# Altium footprint library 贴片.PcbLib: 161 footprints (part 10 of 11)
Each footprint in its own frame and in the unit in brackets; x right, y up, seen from the top. Pads: shape width x height; smd on the part's side, far side on the other; paste and mask are expansions set on the pad; w line width, h text height; cw(c..) or ccw(c..) is an arc to the next point about the centre after c.
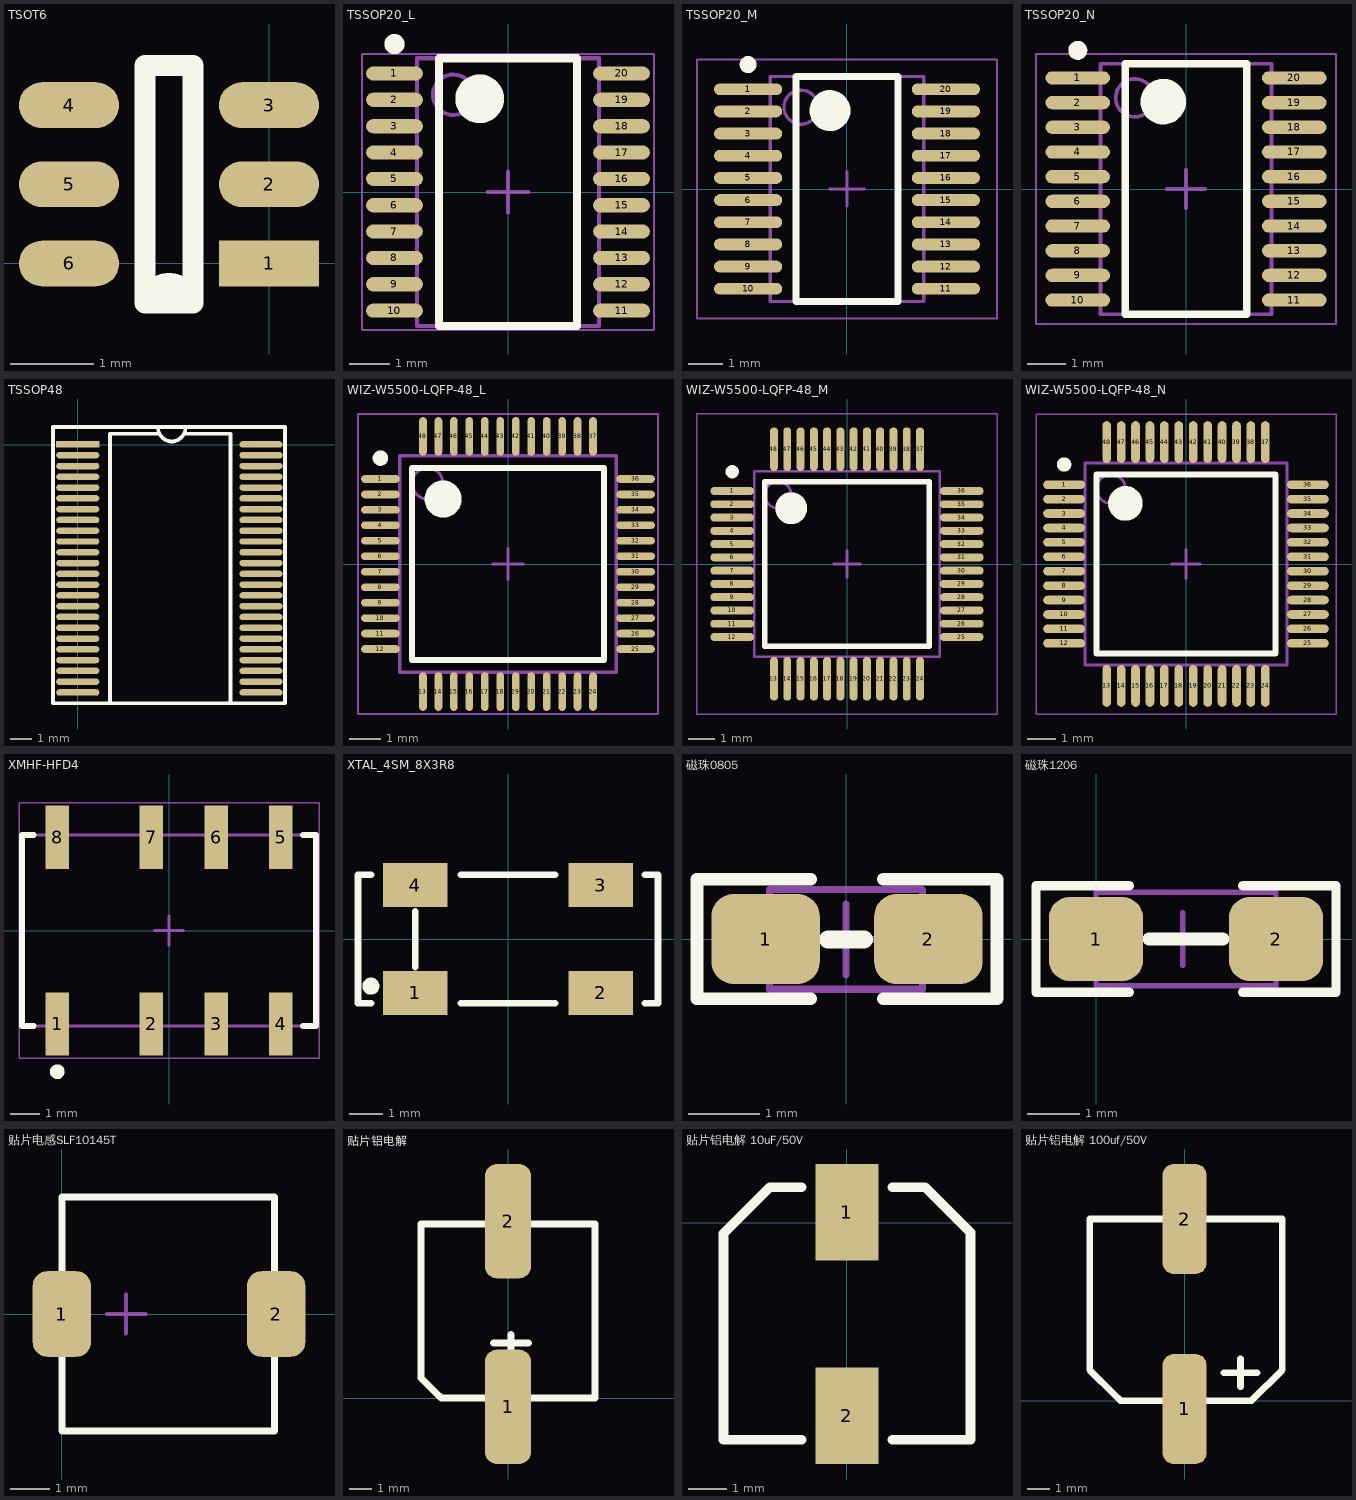
[diagram p9: the footprints below, top view; thin cyan lines are the x and y axes]

## TSOT6 [mm]
height 13.6
pads (6):
  rect 1.2x0.55 smd: 1(0,0)
  oval 1.2x0.55 smd: 2(0,0.95) 3(0,1.9) 4(-2.4,1.9) 5(-2.4,0.95) 6(-2.4,0)
Top Overlay:
  lines w0.254: -1.489,-0.475 -0.962,-0.475 ccw(c-1.2,-0.475) -1.438,-0.475 -0.911,-0.475 -0.911,2.375 -1.489,2.375 -1.489,-0.475

## TSSOP20_L [mm] "TSOP, 20-Leads, Body 6.5x4.4mm, Pitch 0.65mm, IPC High Density"
height 1.2
pads (20):
  oval 1.4x0.35 smd: 1(-2.8,2.925) 2(-2.8,2.275) 3(-2.8,1.625) 4(-2.8,0.975) 5(-2.8,0.325) 6(-2.8,-0.325) 7(-2.8,-0.975) 8(-2.8,-1.625) 9(-2.8,-2.275) 10(-2.8,-2.925) 11(2.8,-2.925) 12(2.8,-2.275) 13(2.8,-1.625) 14(2.8,-0.975) 15(2.8,-0.325) 16(2.8,0.325) 17(2.8,0.975) 18(2.8,1.625) 19(2.8,2.275) 20(2.8,2.925)
Top Overlay:
  circle w0.6: c-0.7,2.3 r0.3
  circle w0.25: c-2.8,3.65 r0.125
  lines w0.2: -1.7,-3.3 1.7,-3.3 1.7,3.3 -1.7,3.3 -1.7,-3.3
Mechanical 13:
  circle w0.1: c-1.35,2.4 r0.5
  lines w0.1: -2.25,-3.3 2.25,-3.3 2.25,3.3 -2.25,3.3 -2.25,-3.3
Mechanical 15:
  lines w0.05: -3.6,-3.4 3.6,-3.4 3.6,3.4 -3.6,3.4 -3.6,-3.4
  lines w0.1: -0.5,0 0.5,0 ; 0,-0.5 0,0.5
3D body: height 1.2, standoff 0.05, extent -2.25,-3.3 2.25,3.3

## TSSOP20_M [mm] "TSOP, 20-Leads, Body 6.5x4.4mm, Pitch 0.65mm, IPC Low Density"
height 1.2
pads (20):
  oval 2x0.35 smd: 1(-2.9,2.925) 2(-2.9,2.275) 3(-2.9,1.625) 4(-2.9,0.975) 5(-2.9,0.325) 6(-2.9,-0.325) 7(-2.9,-0.975) 8(-2.9,-1.625) 9(-2.9,-2.275) 10(-2.9,-2.925) 11(2.9,-2.925) 12(2.9,-2.275) 13(2.9,-1.625) 14(2.9,-0.975) 15(2.9,-0.325) 16(2.9,0.325) 17(2.9,0.975) 18(2.9,1.625) 19(2.9,2.275) 20(2.9,2.925)
Top Overlay:
  circle w0.25: c-2.9,3.65 r0.125
  circle w0.6: c-0.5,2.3 r0.3
  lines w0.2: -1.5,-3.3 -1.5,3.3 1.5,3.3 1.5,-3.3 -1.5,-3.3
Mechanical 13:
  circle w0.1: c-1.35,2.4 r0.5
  lines w0.1: -2.25,-3.3 -2.25,3.3 2.25,3.3 2.25,-3.3 -2.25,-3.3
Mechanical 15:
  lines w0.05: -4.4,-3.8 -4.4,3.8 4.4,3.8 4.4,-3.8 -4.4,-3.8
  lines w0.1: -0.5,0 0.5,0 ; 0,-0.5 0,0.5
3D body: height 1.2, standoff 0.05, extent -2.25,-3.3 2.25,3.3

## TSSOP20_N [mm] "TSOP, 20-Leads, Body 6.5x4.4mm, Pitch 0.65mm, IPC Medium Density"
height 1.2
pads (20):
  oval 1.7x0.35 smd: 1(-2.85,2.925) 2(-2.85,2.275) 3(-2.85,1.625) 4(-2.85,0.975) 5(-2.85,0.325) 6(-2.85,-0.325) 7(-2.85,-0.975) 8(-2.85,-1.625) 9(-2.85,-2.275) 10(-2.85,-2.925) 11(2.85,-2.925) 12(2.85,-2.275) 13(2.85,-1.625) 14(2.85,-0.975) 15(2.85,-0.325) 16(2.85,0.325) 17(2.85,0.975) 18(2.85,1.625) 19(2.85,2.275) 20(2.85,2.925)
Top Overlay:
  circle w0.25: c-2.85,3.65 r0.125
  circle w0.6: c-0.6,2.3 r0.3
  lines w0.2: -1.6,-3.3 -1.6,3.3 1.6,3.3 1.6,-3.3 -1.6,-3.3
Mechanical 13:
  circle w0.1: c-1.35,2.4 r0.5
  lines w0.1: -2.25,-3.3 -2.25,3.3 2.25,3.3 2.25,-3.3 -2.25,-3.3
Mechanical 15:
  lines w0.05: -3.95,-3.55 -3.95,3.55 3.95,3.55 3.95,-3.55 -3.95,-3.55
  lines w0.1: -0.5,0 0.5,0 ; 0,-0.5 0,0.5
3D body: height 1.2, standoff 0.05, extent -2.25,-3.3 2.25,3.3

## TSSOP48 [mm]
pads (48):
  rect 2x0.3 smd: 1(0.009,0.01)
  oval 2x0.3 smd: 2(0.009,-0.49) 3(0.009,-0.99) 4(0.009,-1.49) 5(0.009,-1.99) 6(0.009,-2.49) 7(0.009,-2.99) 8(0.009,-3.49) 9(0.009,-3.99) 10(0.009,-4.49) 11(0.009,-4.99) 12(0.009,-5.49) 13(0.009,-5.99) 14(0.009,-6.49) 15(0.009,-6.99) 16(0.009,-7.49) 17(0.009,-7.99) 18(0.009,-8.49) 19(0.009,-8.99) 20(0.009,-9.49) 21(0.009,-9.99) 22(0.009,-10.49) 23(0.009,-10.99) 24(0.009,-11.49) 25(8.509,-11.49) 26(8.509,-10.99) 27(8.509,-10.49) 28(8.509,-9.99) 29(8.509,-9.49) 30(8.509,-8.99) 31(8.509,-8.49) 32(8.509,-7.99) 33(8.509,-7.49) 34(8.509,-6.99) 35(8.509,-6.49) 36(8.509,-5.99) 37(8.509,-5.49) 38(8.509,-4.99) 39(8.509,-4.49) 40(8.509,-3.99) 41(8.509,-3.49) 42(8.509,-2.99) 43(8.509,-2.49) 44(8.509,-1.99) 45(8.509,-1.49) 46(8.509,-0.99) 47(8.509,-0.49) 48(8.509,0.01)
Top Overlay:
  lines w0.178: 1.981,-11.99 -1.142,-11.99 -1.143,-11.989 -1.143,0.813 9.601,0.813 ; 3.734,0.787 ccw(c4.369,0.787) 5.004,0.787 ; 3.739,0.51 1.509,0.51 1.509,-11.99 7.009,-11.99 ; 5.009,0.51 7.09,0.51 7.09,-11.909 ; 6.807,-11.99 9.374,-11.99 ; 7.036,-11.99 9.577,-11.99 9.6,-11.99 9.625,-11.99 9.627,-11.989 9.627,0.813 ; 7.009,-11.99 7.09,-11.909 ; 7.009,-11.99 7.09,-11.909

## WIZ-W5500-LQFP-48_L [mm] "LQFP, 48-Leads, Body 7.00x7.00mm, Pitch 0.50mm, IPC High Density"
height 1.6
pads (48):
  oval 1.25x0.25 smd: 1(-4.125,2.75) 2(-4.125,2.25) 3(-4.125,1.75) 4(-4.125,1.25) 5(-4.125,0.75) 6(-4.125,0.25) 7(-4.125,-0.25) 8(-4.125,-0.75) 9(-4.125,-1.25) 10(-4.125,-1.75) 11(-4.125,-2.25) 12(-4.125,-2.75) 25(4.125,-2.75) 26(4.125,-2.25) 27(4.125,-1.75) 28(4.125,-1.25) 29(4.125,-0.75) 30(4.125,-0.25) 31(4.125,0.25) 32(4.125,0.75) 33(4.125,1.25) 34(4.125,1.75) 35(4.125,2.25) 36(4.125,2.75)
  oval 0.25x1.25 smd: 13(-2.75,-4.125) 14(-2.25,-4.125) 15(-1.75,-4.125) 16(-1.25,-4.125) 17(-0.75,-4.125) 18(-0.25,-4.125) 19(0.25,-4.125) 20(0.75,-4.125) 21(1.25,-4.125) 22(1.75,-4.125) 23(2.25,-4.125) 24(2.75,-4.125) 37(2.75,4.125) 38(2.25,4.125) 39(1.75,4.125) 40(1.25,4.125) 41(0.75,4.125) 42(0.25,4.125) 43(-0.25,4.125) 44(-0.75,4.125) 45(-1.25,4.125) 46(-1.75,4.125) 47(-2.25,4.125) 48(-2.75,4.125)
Top Overlay:
  circle w0.6: c-2.1,2.1 r0.3
  circle w0.25: c-4.125,3.425 r0.125
  lines w0.2: -3.1,-3.1 3.1,-3.1 3.1,3.1 -3.1,3.1 -3.1,-3.1
Mechanical 13:
  circle w0.1: c-2.6,2.6 r0.5
  lines w0.1: -3.5,-3.5 3.5,-3.5 3.5,3.5 -3.5,3.5 -3.5,-3.5
Mechanical 15:
  lines w0.05: -4.85,-4.85 4.85,-4.85 4.85,4.85 -4.85,4.85 -4.85,-4.85
  lines w0.1: -0.5,0 0.5,0 ; 0,-0.5 0,0.5
3D body: height 1.6, standoff 0.05, extent -3.5,-3.5 3.5,3.5

## WIZ-W5500-LQFP-48_M [mm] "LQFP, 48-Leads, Body 7.00x7.00mm, Pitch 0.50mm, IPC Low Density"
height 1.6
pads (48):
  oval 1.65x0.3 smd: 1(-4.325,2.75) 2(-4.325,2.25) 3(-4.325,1.75) 4(-4.325,1.25) 5(-4.325,0.75) 6(-4.325,0.25) 7(-4.325,-0.25) 8(-4.325,-0.75) 9(-4.325,-1.25) 10(-4.325,-1.75) 11(-4.325,-2.25) 12(-4.325,-2.75) 25(4.325,-2.75) 26(4.325,-2.25) 27(4.325,-1.75) 28(4.325,-1.25) 29(4.325,-0.75) 30(4.325,-0.25) 31(4.325,0.25) 32(4.325,0.75) 33(4.325,1.25) 34(4.325,1.75) 35(4.325,2.25) 36(4.325,2.75)
  oval 0.3x1.65 smd: 13(-2.75,-4.325) 14(-2.25,-4.325) 15(-1.75,-4.325) 16(-1.25,-4.325) 17(-0.75,-4.325) 18(-0.25,-4.325) 19(0.25,-4.325) 20(0.75,-4.325) 21(1.25,-4.325) 22(1.75,-4.325) 23(2.25,-4.325) 24(2.75,-4.325) 37(2.75,4.325) 38(2.25,4.325) 39(1.75,4.325) 40(1.25,4.325) 41(0.75,4.325) 42(0.25,4.325) 43(-0.25,4.325) 44(-0.75,4.325) 45(-1.25,4.325) 46(-1.75,4.325) 47(-2.25,4.325) 48(-2.75,4.325)
Top Overlay:
  circle w0.6: c-2.1,2.1 r0.3
  circle w0.25: c-4.325,3.475 r0.125
  lines w0.2: -3.1,-3.1 3.1,-3.1 3.1,3.1 -3.1,3.1 -3.1,-3.1
Mechanical 13:
  circle w0.1: c-2.6,2.6 r0.5
  lines w0.1: -3.5,-3.5 3.5,-3.5 3.5,3.5 -3.5,3.5 -3.5,-3.5
Mechanical 15:
  lines w0.05: -5.65,-5.65 5.65,-5.65 5.65,5.65 -5.65,5.65 -5.65,-5.65
  lines w0.1: -0.5,0 0.5,0 ; 0,-0.5 0,0.5
3D body: height 1.6, standoff 0.05, extent -3.5,-3.5 3.5,3.5

## WIZ-W5500-LQFP-48_N [mm] "LQFP, 48-Leads, Body 7.00x7.00mm, Pitch 0.50mm, IPC Medium Density"
height 1.6
pads (48):
  oval 1.45x0.3 smd: 1(-4.225,2.75) 2(-4.225,2.25) 3(-4.225,1.75) 4(-4.225,1.25) 5(-4.225,0.75) 6(-4.225,0.25) 7(-4.225,-0.25) 8(-4.225,-0.75) 9(-4.225,-1.25) 10(-4.225,-1.75) 11(-4.225,-2.25) 12(-4.225,-2.75) 25(4.225,-2.75) 26(4.225,-2.25) 27(4.225,-1.75) 28(4.225,-1.25) 29(4.225,-0.75) 30(4.225,-0.25) 31(4.225,0.25) 32(4.225,0.75) 33(4.225,1.25) 34(4.225,1.75) 35(4.225,2.25) 36(4.225,2.75)
  oval 0.3x1.45 smd: 13(-2.75,-4.225) 14(-2.25,-4.225) 15(-1.75,-4.225) 16(-1.25,-4.225) 17(-0.75,-4.225) 18(-0.25,-4.225) 19(0.25,-4.225) 20(0.75,-4.225) 21(1.25,-4.225) 22(1.75,-4.225) 23(2.25,-4.225) 24(2.75,-4.225) 37(2.75,4.225) 38(2.25,4.225) 39(1.75,4.225) 40(1.25,4.225) 41(0.75,4.225) 42(0.25,4.225) 43(-0.25,4.225) 44(-0.75,4.225) 45(-1.25,4.225) 46(-1.75,4.225) 47(-2.25,4.225) 48(-2.75,4.225)
Top Overlay:
  circle w0.25: c-4.225,3.45 r0.125
  circle w0.6: c-2.1,2.1 r0.3
  lines w0.2: -3.1,-3.1 -3.1,3.1 3.1,3.1 3.1,-3.1 -3.1,-3.1
Mechanical 13:
  circle w0.1: c-2.6,2.6 r0.5
  lines w0.1: -3.5,-3.5 -3.5,3.5 3.5,3.5 3.5,-3.5 -3.5,-3.5
Mechanical 15:
  lines w0.05: -5.2,-5.2 -5.2,5.2 5.2,5.2 5.2,-5.2 -5.2,-5.2
  lines w0.1: -0.5,0 0.5,0 ; 0,-0.5 0,0.5
3D body: height 1.6, standoff 0.05, extent -3.5,-3.5 3.5,3.5

## XMHF-HFD4 [mm] "SMD, 8-Leads, Body 6.5x10mm, Height 5.65mm"
height 5.65
pads (8):
  rect 0.8x2.15 smd: 1(-3.8,-3.175) 2(-0.6,-3.175) 3(1.6,-3.175) 4(3.8,-3.175) 5(3.8,3.175) 6(1.6,3.175) 7(-0.6,3.175) 8(-3.8,3.175)
Top Overlay:
  circle w0.25: c-3.8,-4.8 r0.125
  lines w0.2: -4.6,-3.25 -5,-3.25 -5,3.25 -4.6,3.25 ; 4.55,-3.25 5,-3.25 5,3.25 4.55,3.25
Mechanical 13:
  lines w0.1: -5,-3.25 5,-3.25 5,3.25 -5,3.25 -5,-3.25
Mechanical 15:
  lines w0.05: -5.1,-4.35 5.1,-4.35 5.1,4.35 -5.1,4.35 -5.1,-4.35
  lines w0.1: -0.5,0 0.5,0 ; 0,-0.5 0,0.5
3D body: height 5.65, standoff 0, extent -5,-3.25 5,3.25

## XTAL_4SM_8X3R8 [mm]
height 2
pads (4):
  rect 1.9x1.3 smd: 1(-2.75,-1.6) 2(2.75,-1.6) 3(2.75,1.6) 4(-2.75,1.6)
Top Overlay:
  circle w0.254: c-4.064,-1.397 r0.127
  lines w0.203: -4.064,-1.905 -4.445,-1.905 -4.445,1.905 -4.064,1.905 ; -2.75,-0.838 -2.75,0.813 ; -1.397,-1.905 1.397,-1.905 ; -1.397,1.905 1.397,1.905 ; 4.064,-1.905 4.445,-1.905 4.445,-1.651 4.445,1.651 4.445,1.905 4.064,1.905

## 磁珠0805 [mil] "0805磁珠"
pads (2):
  rrect50% 60x50 smd: 1(-44.49,0.24) 2(45.51,0.24)
Top Overlay:
  lines w7: -19.49,-32.76 -82.49,-32.76 -82.49,33.24 -19.49,33.24 ; 20.51,-32.76 83.51,-32.76 83.51,33.24 20.51,33.24
  lines w10: -10,0 10,0
Mechanical 13:
  lines w3.94: -42.32,-27.56 -42.32,27.56 42.32,27.56 42.32,-27.56 -42.32,-27.56
Mechanical 15:
  lines w3.94: -19.68,0 19.69,0 ; 0,-19.68 0,19.69
3D body: height 27.56, standoff 0, extent -42.32,-27.56 42.32,27.56

## 磁珠1206 [mm] "1206磁珠"
pads (2):
  rrect50% 1.8x1.6 smd: 1(0,0) 2(3.429,0)
Top Overlay:
  lines w0.178: 0.635,-1.016 -1.143,-1.016 -1.143,1.016 0.635,1.016 ; 2.794,-1.016 4.572,-1.016 4.572,1.016 2.794,1.016
  lines w0.254: 1.016,0 2.413,0
Mechanical 13:
  lines w0.1: 0,-0.889 0,0.889 3.429,0.889 3.429,-0.889 0,-0.889
Mechanical 15:
  lines w0.1: 1.151,0 2.151,0 ; 1.651,-0.5 1.651,0.5
3D body: height 0.7, standoff 0, extent 0,-0.889 3.429,0.889

## 贴片电感SLF10145T [mm]
pads (2):
  rrect50% 1.5x2.2 smd: 1(0,0) 2(5.5,0)
Top Overlay:
  lines w0.178: 0,-3 0,3 5.461,3 5.461,-3 0,-3
Mechanical 13:
  lines w0.1: 0,-3 5.461,-3 5.461,3 0,3 0,-3
Mechanical 15:
  lines w0.1: 1.151,0 2.151,0 ; 1.651,-0.5 1.651,0.5
3D body: height 4.5, standoff 0, extent 0,-3 5.461,3

## 贴片铝电解 [mm]
height 1.75
pads (2):
  rrect50% 2x5 smd: 1(0,-0.381) 2(0,7.747)
Top Overlay:
  lines w0.305: -0.889,0 -2.921,0 -3.175,0.254 -3.81,0.889 -3.81,7.62 -0.889,7.62 ; -0.635,2.413 0.508,2.413 0.889,2.413 ; 0.127,2.032 0.127,2.794 ; 0.889,0 3.81,0 3.81,7.62 0.889,7.62

## 贴片铝电解 10uF/50V [mil] "贴片铝电解电容 6.3*7.7"
height 236.22
pads (2):
  rect 65x100 smd: 1(0,11) 2(0,-200.22)
Top Overlay:
  lines w10: -47.24,-225.22 -128.11,-225.22 -128.11,-11.11 -80,37 -70.87,37 -47.24,37 ; 47.24,-225.22 128.11,-225.22 ; 47.24,37 70.87,37 81,37 128.11,-10.11 128.11,-225.11

## 贴片铝电解 100uf/50V [mm]
height 1.75
pads (2):
  rrect50% 2x5 smd: 1(0,-0.381) 2(0,8.255)
Top Overlay:
  lines w0.305: -0.889,0 -2.921,0 -3.175,0.254 -4.318,1.397 -4.318,8.255 -0.889,8.255 ; 0.889,0 3.048,0 4.445,1.397 4.445,8.255 0.889,8.255 ; 1.778,1.27 2.921,1.27 3.302,1.27 ; 2.54,0.635 2.54,1.905